# Altium footprint library TC2030-IDC.PcbLib: 1 footprints
Each footprint in its own frame and in the unit in brackets; x right, y up, seen from the top. Pads: shape width x height; smd on the part's side, far side on the other; paste and mask are expansions set on the pad; w line width, h text height; cw(c..) or ccw(c..) is an arc to the next point about the centre after c.
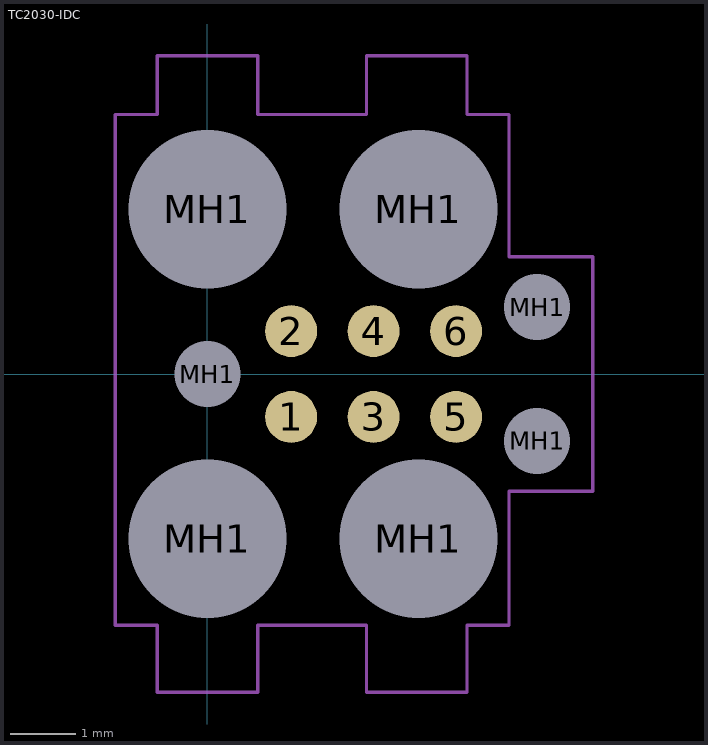
[diagram p0: the footprint, top view; thin cyan lines are the x and y axes]

## TC2030-IDC [mm]
pads (13):
  round 0.787 smd paste-0.762 mask+0: 1(1.27,-0.65) 2(1.27,0.65) 3(2.52,-0.65) 4(2.52,0.65) 5(3.77,-0.65) 6(3.77,0.65)
  round 2.3 hole 2.4 unplated mask+0.05: MH1(0,-2.5) MH1(0,2.5) MH1(3.2,-2.5) MH1(3.2,2.5)
  round 0.9 hole 1 unplated mask+0.05: MH1(0,0) MH1(5,-1.016) MH1(5,1.016)
Top Courtyard:
  lines w0.05: -1.397,-3.81 -1.397,3.937 -0.762,3.937 -0.762,4.826 0.762,4.826 0.762,3.937 2.413,3.937 2.413,4.826 3.937,4.826 3.937,3.937 4.572,3.937 4.572,1.778 5.842,1.778 5.842,-1.778 4.572,-1.778 4.572,-3.81 3.937,-3.81 3.937,-4.826 2.413,-4.826 2.413,-3.81 0.762,-3.81 0.762,-4.826 -0.762,-4.826 -0.762,-3.81 -1.397,-3.81